# Altium integrated library SCR_TRIAC.IntLib: 2 symbols
Pins are listed as number, name and electrical type; pins without a type are passive.

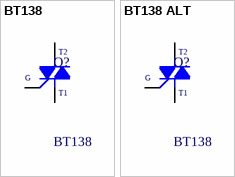
[diagram p0: symbols BT138 to BT138 ALT]

## BT138
designator Q?
Triac, 800V, 12A, TO-220; MANF_P#: BT138-800; MANF: NXP; PRICE: 2500toman@PAYA
footprint Q_TO220 (TO, Thru-Hole, Vertical, Heatsink Mounted; 3 In-Line Leads; Pitch 2.54 mm)
pins: 1 T1, 2 T2, 3 G

## BT138 ALT
designator Q?, comment BT138
Triac, 800V, 12A, TO-220; MANF_P#: BT138-800; MANF: NXP; PRICE: 2500toman@PAYA
footprint Q_TO220_ALT
pins: 1 T1, 2 T2, 3 G